# Altium integrated library Components - cap 10X20.IntLib: 1 symbol
Pins are listed as number, name and electrical type; pins without a type are passive.

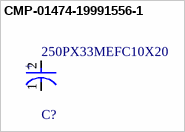
[diagram p0: symbol CMP-01474-19991556-1]

## CMP-01474-19991556-1
designator C?, comment 250PX33MEFC10X20
250PX33MEFC10X20 Radial Can ALUMINUM ELECTROLYTIC CAPACITOR PX 250V 33muF ±20% 0.394Dia 10.00mm; NexarPartId: 19991556; Capacitance: 33µF; Life (Hours): 2000hours; Ripple Current (AC): 140mA; Number of Pins: 2; Voltage Rating (DC): 250V; REACH SVHC: No SVHC; Min Operating Temperature: -40°C; Lead Pitch: 5.0038mm; Dissipation Factor: 20%; Width: 19.05mm; RoHS: Compliant; Height: 20mm; Height - Seated (Max): 21.9964mm; Diameter: 10mm; Voltage Rating: 250V; Case/Package: Radial; Mount: Through Hole; Weight: 4.717361g; Max Operating Temperature: 105°C; Tolerance: 20%; Length: 63.5mm; Ripple Current: 140mA
footprint FP-250PX33MEFC10X20-MFG
pins: 1 C, 2 A
text: +